# Altium schematic symbol library DIODOS.SchLib: 41 symbols (part 3 of 3)
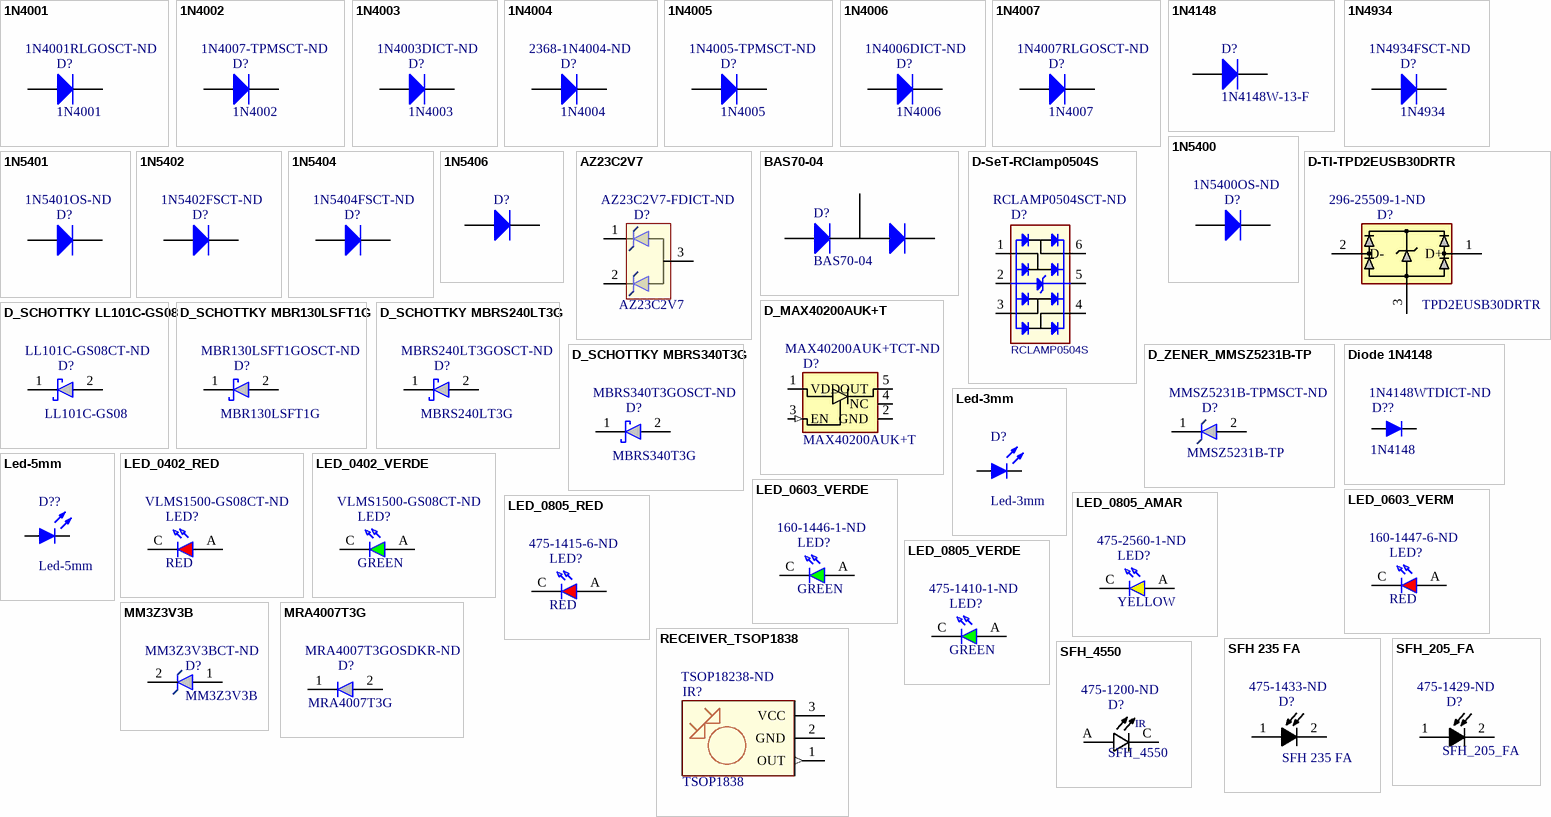
[diagram p3: symbols 1N4001 to SFH_4550]

## SFH_4550
designator D?  Supplier Part Number 1: 475-1200-ND
LED IrLED 860nm 2-Pin T-1 3/4; Manufacturer: Osram; Manufacturer Part Number: SFH4550; MF: OSRAM Opto; Viewing Angle: 6°; Lens Style: Circular,Round; Number of LEDs: 1; Forward Voltage: 1.5V; Touchscreen: Infrared (IR); Forward Current: 100mA; Power Dissipation: 180mW; Reverse Voltage: 5V; Rise Time: 12ns; Lead Length: 28mm; SnapEDA_Link: https://www.snapeda.com/parts/SFH%204550/OSRAM%20Opto%20Semiconductors%20Inc./view-part/?ref=snap; MP: SFH 4550; Package: Radial Osram Opto; Digi-Key_Part_Number: 475-1200-ND; Digi-Key_Purchase_URL: https://www.digikey.com.br/product-detail/en/osram-opto-semiconductors-inc/SFH-4550/475-1200-ND/806365?utm_source=snapeda&utm_medium=aggregator&utm_campaign=symbol; Value: *; Supplier 1: Digi-Key; RoHS: Yes; Category: LEDs; Pricing 1: 1=1,06000, 10=0,82400, 100=0,52980, 500=0,44740, 1000=0,35321, 2500=0,32966, 5000=0,31788, 10000=0,31318, 25000=0,30611 (USD); Mount: Through Hole; Number of Pins: 2; Contact Plating: Tin,Matte; Min Operating Temperature: -40°C; Max Operating Temperature: 100°C; Wavelength: 860nm; Orientation: Top View; Packaging: Bulk; Number of Elements: 1; Test Current: 100mA; Package Quantity: 1000; Power Rating: 180mW; Fall Time: 12ns; Max Power Dissipation: 180mW; Operating Supply Voltage: 1.5V; Diameter: 5mm; Length: 5.9mm; Depth: 5.9mm; Radiation Hardening: No; REACH SVHC: No SVHC; Lead Free: Lead Free; ComponentLink1URL: https://datasheet.ciiva.com/1321/43571-1321521.pdf?src-supplier=Newark; ComponentLink1Description: https://datasheet.ciiva.com/1321/43571-1321521.pdf?src-supplier=Newark; ComponentLink2URL: https://datasheet.ciiva.com/4255/800catalogue-dojsessionid26c214f9bf200969a80442e17ab3332aactdownload-4255457.pdf?src-supplier=Arrow; ComponentLink2Description: https://datasheet.ciiva.com/4255/800catalogue-dojsessionid26c214f9bf200969a80442e17ab3332aactdownload-4255457.pdf?src-supplier=Arrow; ComponentLink3URL: https://datasheet.ciiva.com/1234/1441891-1234132.pdf?src-supplier=Element14; ComponentLink3Description: https://datasheet.ciiva.com/1234/1441891-1234132.pdf?src-supplier=Element14; ComponentLink4URL: https://datasheet.ciiva.com/11769/0900766b808b12d5-11769890.pdf?src-supplier=RSComponents; ComponentLink4Description: https://datasheet.ciiva.com/11769/0900766b808b12d5-11769890.pdf?src-supplier=RSComponents; ComponentLink5URL: https://datasheet.ciiva.com/2107/00116140-0-2107798.pdf?src-supplier=Digi-Key; ComponentLink5Description: https://datasheet.ciiva.com/2107/00116140-0-2107798.pdf?src-supplier=Digi-Key; ComponentLink6URL: https://datasheet.ciiva.com/4670/fh4550-pb-free-2012-12-03-22288-4670523.pdf?src-supplier=Mouser; ComponentLink6Description: https://datasheet.ciiva.com/4670/fh4550-pb-free-2012-12-03-22288-4670523.pdf?src-supplier=Mouser; ComponentLink7URL: https://datasheet.ciiva.com/26947/getdatasheetpartid-462215-26947307.pdf?src-supplier=Verical; ComponentLink7Description: https://datasheet.ciiva.com/26947/getdatasheetpartid-462215-26947307.pdf?src-supplier=Verical
footprint *DIO_SFH_4550_SFH_4550(Primary)
pins: A, C
text: IR

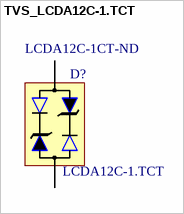
[diagram p1: symbol TVS_LCDA12C-1.TCT]

## TVS_LCDA12C-1.TCT
designator D?, comment LCDA12C-1.TCT  Supplier Part Number 1: LCDA12C-1CT-ND
TVS DIODE 12VWM 26.6VC SOT143; Manufacturer: Semtech; Fabricante: Semtech Corporation; Direction: Unidirectional,Bidirectional; Element Configuration: Dual; Reverse Standoff Voltage: 12V; Min Breakdown Voltage: 13.3V; Clamping Voltage: 26.6V; Peak Pulse Power: 500W; Max Reverse Leakage Current: 5uA; Test Current: 1mA; Peak Pulse Current: 20A; Number of Elements: 2; Capacitance: 8pF; Number of Channels: 1; Power Line Protection: No; ESD Protection: Yes; Polarity: Unidirectional; ComponentLink1Description: LOJA; ComponentLink1URL: https://www.digikey.com/product-detail/en/semtech-corporation/LCDA12C-1.TCT/LCDA12C-1CT-ND/1249516; ComponentLink2Description: DATASHEET; ComponentLink2URL: https://www.semtech.com/uploads/documents/lcdaxxc_1.pdf; Footprint: SOT143-4; MPN: LCDA12C-1.TCT; Value: LCDA12C-1.TCT; Supplier 1: Digi-Key; Manufacturer Part Number: LCDA12C-1.TCT; RoHS: Yes; Category: TVS Diodes; Stock 1: 9705; Pricing 1: 1=2,33000, 10=2,09400, 25=1,97520, 100=1,54050, 250=1,50100, 500=1,30350, 1000=1,10600 (USD); Mount: Surface Mount; Case/Package: SOT-143; Number of Pins: 4; Min Operating Temperature: -55°C; Max Operating Temperature: 125°C; Max Power Dissipation: 500W; Composition: Zener; Reverse Breakdown Voltage: 13.3V; Packaging: Tape and Reel; Voltage Rating (DC): 12V; Operating Supply Voltage: 12V; Number of Unidirectional Channels: 2; Working Voltage: 12V; Leakage Current: 5uA; Max Breakdown Voltage: 13.3V; Breakdown Voltage: 13.3V; Termination: SMD/SMT; Length: 3.04mm; Height: 1.1mm; Width: 1.4mm; Depth: 1.4mm; Radiation Hardening: No; REACH SVHC: No SVHC; Lead Free: Lead Free; ComponentLink3URL: https://datasheet.ciiva.com/26946/getdatasheetpartid-144115-26946872.pdf?src-supplier=Verical; ComponentLink3Description: https://datasheet.ciiva.com/26946/getdatasheetpartid-144115-26946872.pdf?src-supplier=Verical; ComponentLink4URL: https://datasheet.ciiva.com/17041/0900766b80d896e5-17041131.pdf?src-supplier=Allied+Electronics; ComponentLink4Description: https://datasheet.ciiva.com/17041/0900766b80d896e5-17041131.pdf?src-supplier=Allied+Electronics; ComponentLink5URL: https://datasheet.ciiva.com/339/lcdaxxc-1-339399.pdf?src-supplier=Digi-Key; ComponentLink5Description: https://datasheet.ciiva.com/339/lcdaxxc-1-339399.pdf?src-supplier=Digi-Key; ComponentLink6URL: https://datasheet.ciiva.com/339/lcdaxxc-1-339400.pdf?src-supplier=Digi-Key; ComponentLink6Description: https://datasheet.ciiva.com/339/lcdaxxc-1-339400.pdf?src-supplier=Digi-Key; ComponentLink7URL: https://datasheet.ciiva.com/339/lcdaxxc-1-339401.pdf?src-supplier=Digi-Key; ComponentLink7Description: https://datasheet.ciiva.com/339/lcdaxxc-1-339401.pdf?src-supplier=Digi-Key; ComponentLink8URL: https://datasheet.ciiva.com/11304/lcdaxxc-1-11304763.pdf?src-supplier=Avnet; ComponentLink8Description: https://datasheet.ciiva.com/11304/lcdaxxc-1-11304763.pdf?src-supplier=Avnet; ComponentLink9URL: https://datasheet.ciiva.com/16216/lcdaxxc-1-16216123.pdf?src-supplier=Future+Electronics; ComponentLink9Description: https://datasheet.ciiva.com/16216/lcdaxxc-1-16216123.pdf?src-supplier=Future+Electronics; ComponentLink10URL: https://datasheet.ciiva.com/5748/lcdaxxc-1-5748364.pdf?src-supplier=Farnell; ComponentLink10Description: https://datasheet.ciiva.com/5748/lcdaxxc-1-5748364.pdf?src-supplier=Farnell; ComponentLink11URL: https://datasheet.ciiva.com/8029/lcdaxxc-1-8029917.pdf?src-supplier=Element14; ComponentLink11Description: https://datasheet.ciiva.com/8029/lcdaxxc-1-8029917.pdf?src-supplier=Element14; ComponentLink12URL: https://datasheet.ciiva.com/17408/lcdaxxc-1-17408927.pdf?src-supplier=Avnet+Europe; ComponentLink12Description: https://datasheet.ciiva.com/17408/lcdaxxc-1-17408927.pdf?src-supplier=Avnet+Europe
footprint SOT143-4P
pins: 1, 2, 3, 4